# Altium schematic symbol library tmp.SchLib: 3 symbols
Pins are listed as number, name and electrical type; pins without a type are passive.

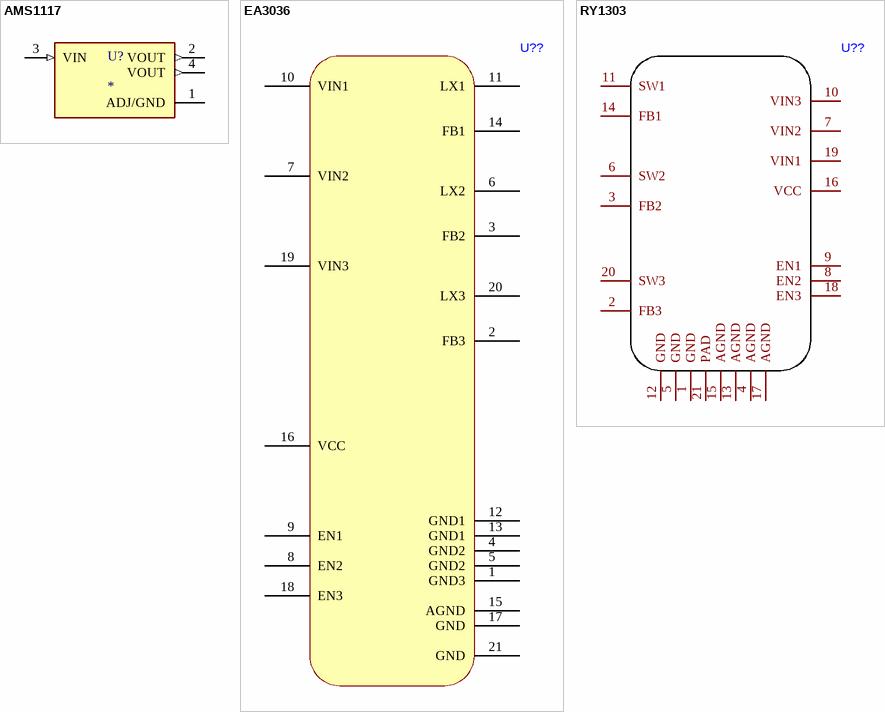
[diagram p0: symbols AMS1117 to RY1303]

## AMS1117
designator U?
Sot223/Pkg 1-Amp 5-Volt Low Drop Out Voltage Regulatator; MF: {'manufacturer': u'Advanced Monolithic Systems'}; MP: AMS1117; Availability: Unavailable; Price: None; Package: None; Value: *
footprint SOT229P700X180-4N
pins: 1 ADJ/GND (power), 2 VOUT (out), 3 VIN (in), 4 VOUT (out)

## EA3036
designator U??
footprint WQFN-20_L3.0-W3.0-P0.40-BL-EP
pins: 1 GND3, 2 FB3, 3 FB2, 4 GND2, 5 GND2, 6 LX2, 7 VIN2, 8 EN2, 9 EN1, 10 VIN1, 11 LX1, 12 GND1, 13 GND1, 14 FB1, 15 AGND, 16 VCC, 17 GND, 18 EN3, 19 VIN3, 20 LX3, 21 GND

## RY1303
designator U??
footprint RY1303
pins: 1 GND, 2 FB3, 3 FB2, 4 AGND, 5 GND, 6 SW2, 7 VIN2, 8 EN2, 9 EN1, 10 VIN3, 11 SW1, 12 GND, 13 AGND, 14 FB1, 15 AGND, 16 VCC, 17 AGND, 18 EN3, 19 VIN1, 20 SW3, 21 PAD